# EAGLE library part MPT13 (library pluggable_terminal_blocks)
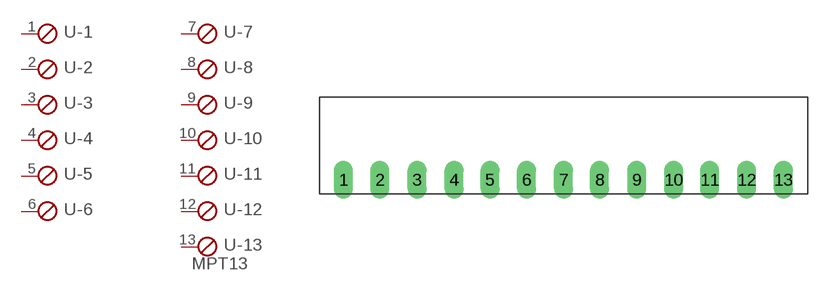
[diagram p6: symbol with the pads of 13POL35; footprint 13POL35]

Designator prefix -; gates -1=SKB -2=SKB -3=SKB -4=SKB -5=SKB -6=SKB -7=SKB -8=SKB -9=SKB -10=SKB -11=SKB -12=SKB -13=SKBV

## MPT13  [13POL35]
1  -1:1  pas
2  -2:1  pas
3  -3:1  pas
4  -4:1  pas
5  -5:1  pas
6  -6:1  pas
7  -7:1  pas
8  -8:1  pas
9  -9:1  pas
10  -10:1  pas
11  -11:1  pas
12  -12:1  pas
13  -13:1  pas

## Footprint 13POL35 (pad centres in mm)
drill 1.2 long: 1 -21.02,0; 2 -17.53,0; 3 -13.99,0; 4 -10.45,0; 5 -7.01,0; 6 -3.52,0; 7 0.02,0; 8 3.46,0; 9 7,0; 10 10.54,0; 11 13.98,0; 12 17.52,0; 13 21.02,0